# EAGLE library part B10P-VH_LF__SN_ (library B10P-VH_LF__SN_)
Connector Header Through Hole 10 position 0.156" (3.96mm) Source: Datasheet <https://www.jst-mfg.com/product/pdf/eng/eVH.pdf?60bab95eaf98f>
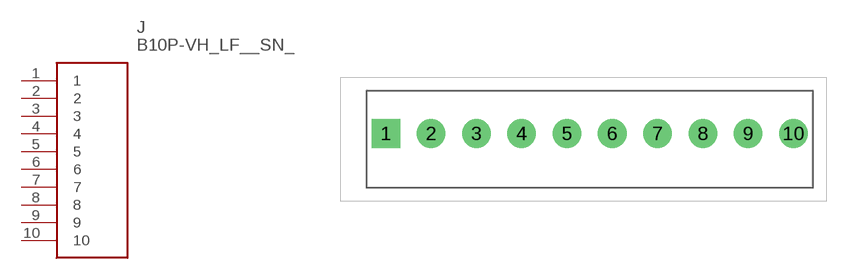
[diagram p0: symbol with the pads of B10P-VH(LF)(SN); footprint B10P-VH(LF)(SN)]

Designator prefix J

## B10P-VH_LF__SN_ (Description: Connector Header Through Hole 10 position 0.156&quot; (3.96mm); Height: mm; Manufacturer_Name: JST (JAPAN SOLDERLESS TERMINALS); Manufacturer_Part_Number: B10P-VH(LF)(SN); Mouser_Part_Number: 306-B10P-VHLFSN; Mouser_Price-Stock: https://www.mouser.co.uk/ProductDetail/JST-Commercial/B10P-VHLFSN?qs=QpmGXVUTftHJ4omjfV4Obw%3D%3D)  [B10P-VH(LF)(SN)]
1  1
2  2
3  3
4  4
5  5
6  6
7  7
8  8
9  9
10  10

## Footprint B10P-VH(LF)(SN) (pad centres in mm)
B10P-VH(LF)(SN)
drill 1.65 pad 2.5 square: 1 0,0
drill 1.65 pad 2.5: 2 3.96,0; 3 7.92,0; 4 11.88,0; 5 15.84,0; 6 19.8,0; 7 23.76,0; 8 27.72,0; 9 31.68,0; 10 35.64,0